# Altium schematic symbol library LM5088.Schlib: 1 symbol
Pins are listed as number, name and electrical type; pins without a type are passive.

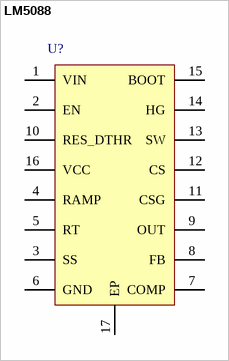
[diagram p0: symbol LM5088]

## LM5088
designator U?  (value not drawn)
REG, SW Buck Controller, LM5088
pins: 1 VIN, 2 EN, 3 SS, 4 RAMP, 5 RT, 6 GND, 7 COMP, 8 FB, 9 OUT, 10 RES_DTHR, 11 CSG, 12 CS, 13 SW, 14 HG, 15 BOOT, 16 VCC, 17 EP